# Altium footprint library AMPHENOL_10171746-00021LF.PcbLib: 1 footprints
Each footprint in its own frame and in the unit in brackets; x right, y up, seen from the top. Pads: shape width x height; smd on the part's side, far side on the other; paste and mask are expansions set on the pad; w line width, h text height; cw(c..) or ccw(c..) is an arc to the next point about the centre after c.
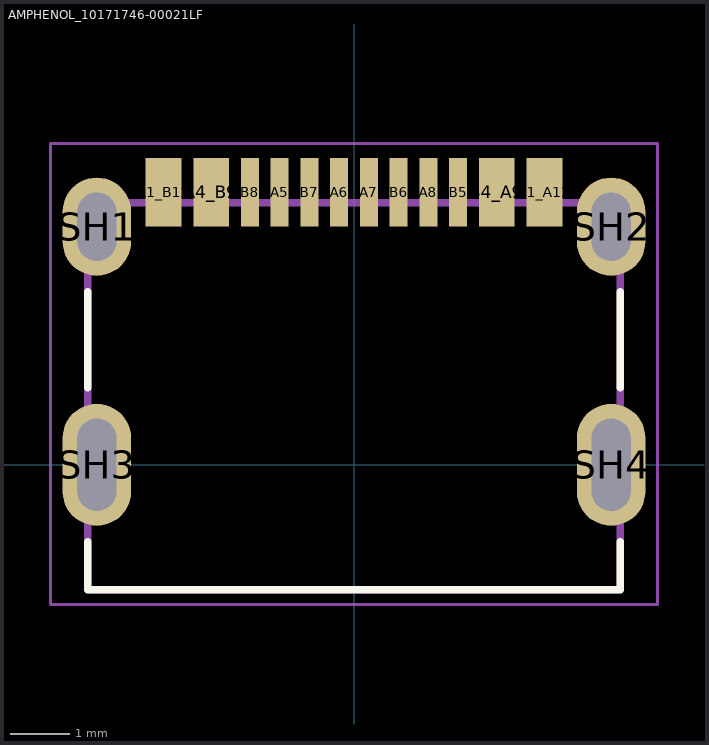
[diagram p0: the footprint, top view; thin cyan lines are the x and y axes]

## AMPHENOL_10171746-00021LF [mm]
height 3.16
pads (16):
  rect 0.6x1.15 smd mask+0.05: A1_B12(-3.2,4.575) A4_B9(-2.4,4.575) B1_A12(3.2,4.575) B4_A9(2.4,4.575)
  rect 0.3x1.15 smd mask+0.05: A5(-1.25,4.575) A6(-0.25,4.575) A7(0.25,4.575) A8(1.25,4.575) B5(1.75,4.575) B6(0.75,4.575) B7(-0.75,4.575) B8(-1.75,4.575)
  oval 1.15x1.65 hole 0.65 slot 1.15 at 90 deg: SH1(-4.32,4) SH2(4.32,4)
  oval 1.15x2.05 hole 0.65 slot 1.55 at 90 deg: SH3(-4.32,0) SH4(4.32,0)
Top Overlay:
  lines w0.127: -4.47,-1.295 -4.47,-2.1 4.47,-2.1 4.47,-1.295 ; -4.47,1.295 -4.47,2.905 ; 4.47,1.295 4.47,2.905
Mechanical 13:
  lines w0.127: -4.47,-2.1 4.47,-2.1 4.47,4.4 -4.47,4.4 -4.47,-2.1
Mechanical 15:
  lines w0.05: -5.095,-2.35 -5.095,5.4 5.095,5.4 5.095,-2.35 -5.095,-2.35
3D body "step_temp.STEP": height 3.26, standoff -0.5, extent -4.47,-2.1 4.47,4.65